# EAGLE library part LEDDIMMER (library Smile_Shade)
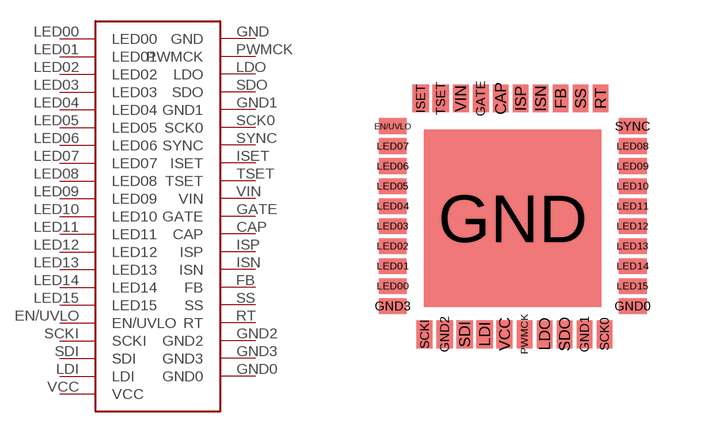
[diagram p1: symbol with the pads of LEDDIMMER; footprint LEDDIMMER]

Designator prefix -

## LEDDIMMER  [LEDDIMMER]
CAP  CAP
EN/UVLO  EN/UVLO
FB  FB
GATE  GATE
GND  GND
GND0  GND0
GND1  GND1
GND2  GND2
GND3  GND3
ISET  ISET
ISN  ISN
ISP  ISP
LDI  LDI
LDO  LDO
LED00  LED00
LED01  LED01
LED02  LED02
LED03  LED03
LED04  LED04
LED05  LED05
LED06  LED06
LED07  LED07
LED08  LED08
LED09  LED09
LED10  LED10
LED11  LED11
LED12  LED12
LED13  LED13
LED14  LED14
LED15  LED15
PWMCK  PWMCK
RT  RT
SCK0  SCK0
SCKI  SCKI
SDI  SDI
SDO  SDO
SS  SS
SYNC  SYNC
TSET  TSET
VCC  VCC
VIN  VIN

## Footprint LEDDIMMER (pad centres in mm)
smd 0.4 x 0.7: CAP 8,-6.4; FB 9.5,-6.4; GATE 7.5,-6.4; GND1 10.1,-12.3; GND2 6.6,-12.3; ISET 6,-6.4; ISN 9,-6.4; ISP 8.5,-6.4; LDI 7.6,-12.3; LDO 9.1,-12.3; PWMCK 8.6,-12.3; RT 10.5,-6.4; SCK0 10.6,-12.3; SCKI 6.1,-12.3; SDI 7.1,-12.3; SDO 9.6,-12.3; SS 10,-6.4; TSET 6.5,-6.4; VCC 8.1,-12.3; VIN 7,-6.4
smd 0.7 x 0.4: EN/UVLO 5.3,-7.1; GND0 11.3,-11.6; GND3 5.3,-11.6; LED00 5.3,-11.1; LED01 5.3,-10.6; LED02 5.3,-10.1; LED03 5.3,-9.6; LED04 5.3,-9.1; LED05 5.3,-8.6; LED06 5.3,-8.1; LED07 5.3,-7.6; LED08 11.3,-7.6; LED09 11.3,-8.1; LED10 11.3,-8.6; LED11 11.3,-9.1; LED12 11.3,-9.6; LED13 11.3,-10.1; LED14 11.3,-10.6; LED15 11.3,-11.1; SYNC 11.3,-7.1
smd 4.43 x 4.43: GND 8.3,-9.4